# Altium schematic symbol library SunRef.SchLib: 3 symbols
Pins are listed as number, name and electrical type; pins without a type are passive.

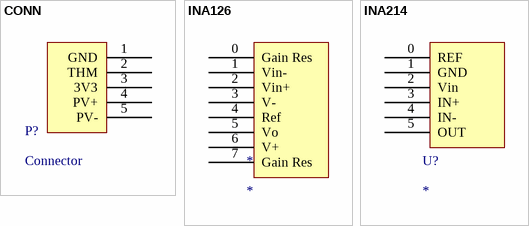
[diagram p0: symbols CONN to INA214]

## CONN
designator P?, comment Connector
footprint TermBlock5
pins: 1 GND, 2 THM, 3 3V3, 4 PV+, 5 PV-

## INA126
designator *
pins: 0 Gain Res, 1 Vin-, 2 Vin+, 3 V-, 4 Ref, 5 Vo, 6 V+, 7 Gain Res

## INA214
designator U?
footprint SOP6 - INA214 (TSOP, 6-Leads, Body 2.2x1.4mm (max), Pitch 0.65mm, IPC Medium Density)
pins: 0 REF, 1 GND, 2 Vin, 3 IN+, 4 IN-, 5 OUT